# Altium schematic symbol library RES,100R,1%,0.5W,1206.Schlib: 1 symbol
Pins are listed as number, name and electrical type; pins without a type are passive.

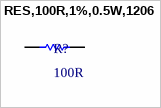
[diagram p0: symbol RES,100R,1%,0.5W,1206]

## RES,100R,1%,0.5W,1206
designator R?, comment 100R
100 Ohms ±1% 0.5W, 1/2W Chip Resistor 1206 (3216 Metric) Anti-Sulfur Thin Film
pins: 1, 2